# Altium footprint library RFM98W433S2.PcbLib: 1 footprints
Each footprint in its own frame and in the unit in brackets; x right, y up, seen from the top. Pads: shape width x height; smd on the part's side, far side on the other; paste and mask are expansions set on the pad; w line width, h text height; cw(c..) or ccw(c..) is an arc to the next point about the centre after c.
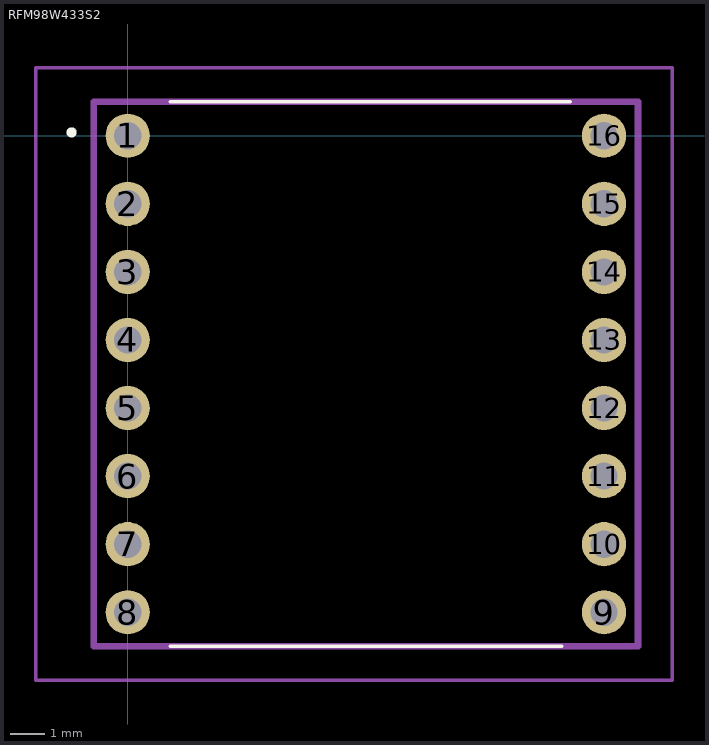
[diagram p0: the footprint, top view; thin cyan lines are the x and y axes]

## RFM98W433S2 [mm]
pads (16):
  round 1.3 hole 0.8: 1(0,0) 2(0,-2) 3(0,-4) 4(0,-6) 5(0,-8) 6(0,-10) 7(0,-12) 8(0,-14) 9(14,-14) 10(14,-12) 11(14,-10) 12(14,-8) 13(14,-6) 14(14,-4) 15(14,-2) 16(14,0)
Top Overlay:
  lines w0.1: 1.25,-15 12.75,-15 ; 1.25,-15 1.25,-15 ; 1.25,-15 12.75,-15 ; 1.25,1 13,1 ; 1.25,1 13,1 ; 1.25,1 1.25,1 ; 12.75,-15 12.75,-15 ; 13,1 13,1
  lines w0.2: -1.7,0.1 -1.7,0.1 ; -1.7,0.1 ccw(c-1.65,0.1) -1.6,0.1 ; -1.7,0.1 cw(c-1.65,0.1) -1.6,0.1 ; -1.7,0.1 -1.7,0.1 ; -1.7,0.1 ccw(c-1.65,0.1) -1.6,0.1 ; -1.6,0.1 -1.6,0.1
Mechanical 15:
  lines w0.2: -1,-15 15,-15 15,1 -1,1 -1,-15
Mechanical 20:
  lines w0.1: -2.7,-16 16,-16 16,2 -2.7,2 -2.7,-16